# Altium schematic symbol library Relays.SchLib: 1 symbol
Pins are listed as number, name and electrical type; pins without a type are passive.

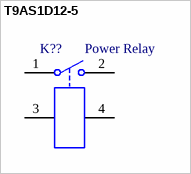
[diagram p0: symbol T9AS1D12-5]

## T9AS1D12-5
designator K??, comment Power Relay
Single-Pole Single-Throw Relay; Part Number: T9AS1D12-5; Supplier 1: Digi-Key; Supplier Part Number 1: PB1014-ND
footprint T9AS1D12-5 (RELAY GEN PURPOSE SPST 30A 5V)
pins: 1, 2, 3, 4